# EAGLE library part TPS61240DRVT (library TPS61240DRVT)
3.5-MHz High Efficiency Step-Up Converter
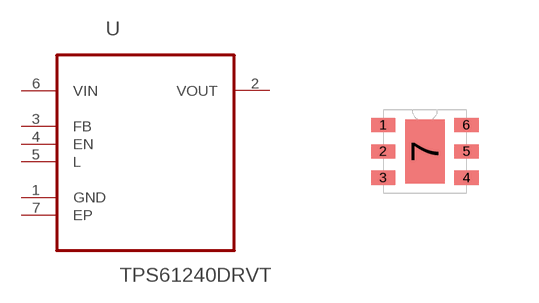
[diagram p0: symbol with the pads of SON65P200X200X80-7N; footprint SON65P200X200X80-7N]

Designator prefix U

## TPS61240DRVT (MPN: TPS61240DRVT; OC_FARNELL: 1903400; OC_NEWARK: 94T5102; PACKAGE: SON-6; SUPPLIER: Texas Instruments)  [SON65P200X200X80-7N]
1  GND  pas
2  VOUT  out
3  FB  in
4  EN  in
5  L  in
6  VIN  pwr
7  EP  pas

## Footprint SON65P200X200X80-7N (pad centres in mm)
smd 0.61 x 0.356: 1 -1.041,0.66; 2 -1.041,0; 3 -1.041,-0.66; 4 1.041,-0.66; 5 1.041,0; 6 1.041,0.66
smd 0.991 x 1.6: 7 0,0